# Altium footprint library PcbLib1.PcbLib: 16 footprints
Each footprint in its own frame and in the unit in brackets; x right, y up, seen from the top. Pads: shape width x height; smd on the part's side, far side on the other; paste and mask are expansions set on the pad; w line width, h text height; cw(c..) or ccw(c..) is an arc to the next point about the centre after c.
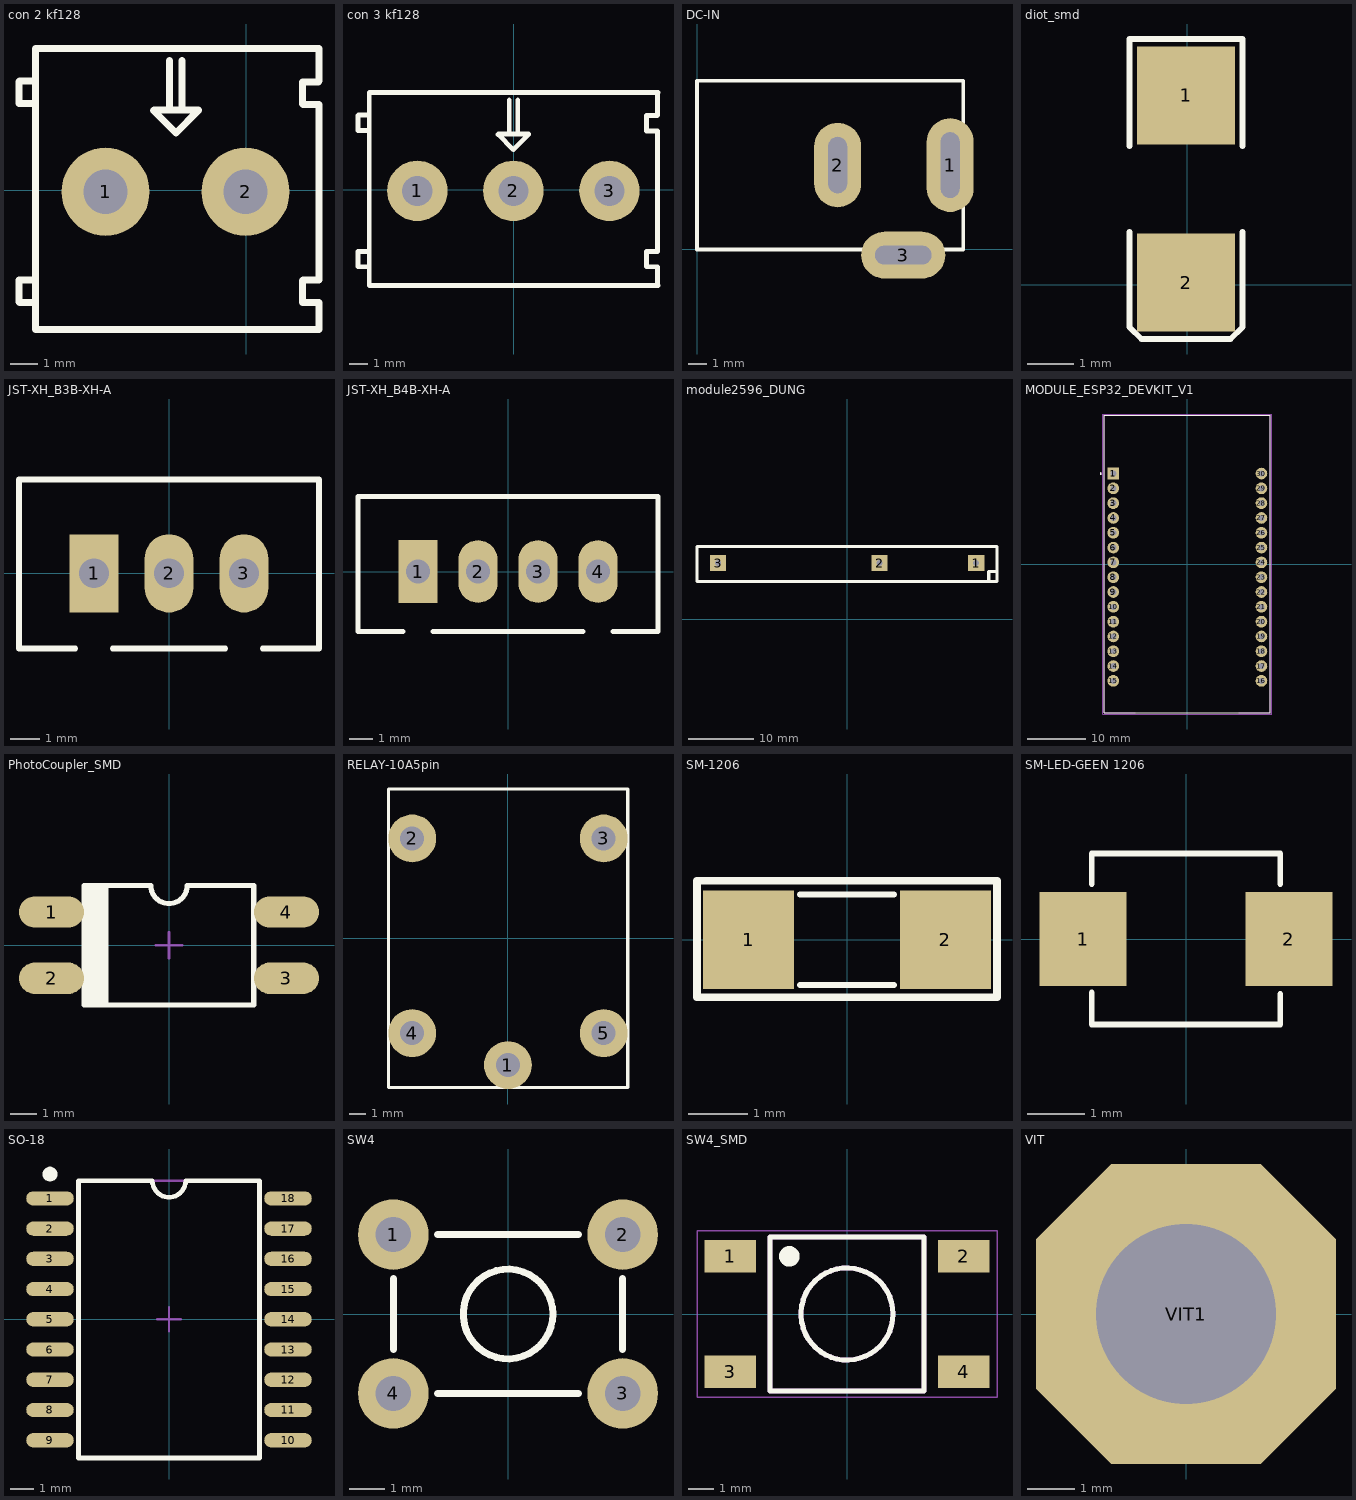
[diagram p0: the footprints below, top view; thin cyan lines are the x and y axes]

## con 2 kf128 [mm]
height 5.08
pads (2):
  round 3.2 hole 1.6 mask+0.102: 1(-5.105,-0.051) 2(-0.025,-0.051)
Top Overlay:
  lines w0.254: -8.245,-4.051 -8.245,-3.251 ; -8.245,3.949 -8.245,3.15 -7.671,3.15 ; -8.23,-4.064 -7.645,-4.064 ; -8.23,-3.251 -7.671,-3.251 ; -8.23,3.962 -7.671,3.962 ; -7.645,5.131 -7.645,-5.051 2.642,-5.051 ; -7.645,5.149 2.642,5.149 ; -2.777,2.957 -2.777,4.707 ; -2.327,3.007 -2.327,4.707 ; 2.051,-4.063 2.051,-3.263 ; 2.051,3.137 2.051,3.937 ; 2.057,-4.064 2.642,-4.064 2.642,-5.029 ; 2.057,-3.251 2.642,-3.251 2.642,3.124 ; 2.057,3.124 2.616,3.124 ; 2.057,3.937 2.616,3.937 2.642,3.962 2.642,5.131 ; -3.365,2.896 -2.553,2.083 -1.74,2.896 -1.74,2.921 -3.34,2.921 -3.365,2.896

## con 3 kf128 [mm]
height 5.08
pads (3):
  round 3.2 hole 1.6 mask+0.102: 1(-5.105,-0.051) 2(-0.025,-0.051) 3(5.055,-0.051)
Top Overlay:
  lines w0.254: -8.245,-4.051 -8.245,-3.251 ; -8.245,3.949 -8.245,3.15 -7.671,3.15 ; -8.23,-4.064 -7.645,-4.064 ; -8.23,-3.251 -7.671,-3.251 ; -8.23,3.962 -7.671,3.962 ; -7.645,5.131 -7.645,-5.051 7.62,-5.051 ; -7.645,5.149 7.62,5.149 ; -0.25,3 -0.25,4.75 ; 0.2,3.05 0.2,4.75 ; 7.004,-4.063 7.004,-3.263 ; 7.004,3.137 7.004,3.937 ; 7.01,-4.064 7.595,-4.064 7.595,-5.029 ; 7.01,-3.251 7.595,-3.251 7.595,3.124 ; 7.01,3.124 7.569,3.124 ; 7.01,3.937 7.569,3.937 7.595,3.962 7.595,5.131 ; -0.838,2.938 -0.813,2.964 0.787,2.964 0.787,2.938 -0.025,2.126 -0.838,2.938
3D body "KF128-3P.step": height 14.85, standoff -4.45, extent -8.22,-5.2 7.62,5.3

## DC-IN [mm] "Jac DC input"
height 5.08
pads (3):
  oval 2.5x5 hole 1 slot 3.5 at 90 deg: 1(13.5,4.5)
  oval 2.5x4.5 hole 1 slot 3 at 90 deg: 2(7.5,4.5)
  oval 4.5x2.5 hole 1 slot 3 at 0 deg: 3(11,-0.3)
Top Overlay:
  lines w0.2: 0,0 0,9 14.2,9 14.2,0 0,0
3D body "SW3dPS-dc range - dc connector[4840.2201].STEP": height 11.02, standoff -3.48, extent 0,-0.503 13.826,9.003

## diot_smd [mm]
height 5.08
pads (2):
  rect 2.1x2.1 smd: 1(-0.026,4.053) 2(-0.026,0.053)
Top Overlay:
  lines w0.127: -1.232,1.132 -1.232,-0.9 -0.978,-1.154 0.927,-1.154 1.181,-0.9 1.181,1.132 ; -1.232,2.973 -1.232,5.259 1.181,5.259 1.181,2.973
3D body "User Library-SMAJ.STEP": height 2.04, standoff 0.05, extent -1.295,-0.381 1.245,4.549

## JST-XH_B3B-XH-A [mm] "JST; XH series; 3 circuit; 2.54 Pitch; Through-hole type; Top entry"
height 7
pads (3):
  rect 1.65x2.65 hole 1: 1(-2.54,0)
  oval 1.65x2.65 hole 1: 2(0,0) 3(2.54,0)
Top Overlay:
  lines w0.2: -3.175,-2.54 -5.08,-2.54 -5.08,3.175 5.08,3.175 5.08,-2.54 3.175,-2.54 ; -1.905,-2.54 1.905,-2.54
3D body "B3B-XH-A.STEP": height 7, standoff -3.4, extent -4.95,-2.555 4.95,3.195

## JST-XH_B4B-XH-A [mm] "JST; XH series; 4 circuit; 2.54 Pitch; Through-hole type; Top entry"
height 5.08
pads (4):
  rect 1.65x2.65 hole 1: 1(-3.81,0)
  oval 1.65x2.65 hole 1: 2(-1.27,0) 3(1.27,0) 4(3.81,0)
Top Overlay:
  lines w0.2: -4.445,-2.54 -6.35,-2.54 -6.35,3.175 6.35,3.175 6.35,-2.54 4.445,-2.54 ; -3.175,-2.54 3.175,-2.54
3D body "B4B-XH-A.STEP": height 7, standoff -3.4, extent -6.2,-2.575 6.2,3.175

## module2596_DUNG [mm] "lm2596"
height 5.08
pads (3):
  rect 2.5x2.5 hole 0.914: 1(19.685,8.534) 2(4.953,8.534) 3(-19.66,8.534)
Top Overlay:
  lines w0.5: 21.59,5.715 21.59,7.239 22.86,7.239 ; -22.86,5.715 -22.86,11.049 22.86,11.049 22.86,5.715 -22.86,5.715
3D body "mach giam ap .STEP": height 21.5, standoff 0.5, extent -21.877,-1.651 21.623,12.159

## MODULE_ESP32_DEVKIT_V1 [mm]
height 6.8
pads (30):
  rect 2x2 / inner round 2 / far side rect 2x2 hole 1.02: 1(-12.7,15.515)
  round 2 hole 1.02: 2(-12.7,12.975) 3(-12.7,10.435) 4(-12.7,7.895) 5(-12.7,5.355) 6(-12.7,2.815) 7(-12.7,0.275) 8(-12.7,-2.265) 9(-12.7,-4.805) 10(-12.7,-7.345) 11(-12.7,-9.885) 12(-12.7,-12.425) 13(-12.7,-14.965) 14(-12.7,-17.505) 15(-12.7,-20.045) 16(12.7,-20.045) 17(12.7,-17.505) 18(12.7,-14.965) 19(12.7,-12.425) 20(12.7,-9.885) 21(12.7,-7.345) 22(12.7,-4.805) 23(12.7,-2.265) 24(12.7,0.275) 25(12.7,2.815) 26(12.7,5.355) 27(12.7,7.895) 28(12.7,10.435) 29(12.7,12.975) 30(12.7,15.515)
Top Overlay:
  circle w0.2: c-14.85,15.515 r0.1
  lines w0.127: -8.91,-25.475 -14.28,-25.475 ; -3.211,25.475 -14.28,25.475 ; 3.5,25.475 14.23,25.475 ; 8.78,-25.475 14.23,-25.475 ; -14.28,-25.475 14.23,-25.475 ; -14.28,-25.475 -14.28,25.475 ; -14.28,-25.475 -14.28,25.475 ; -14.28,25.475 14.23,25.475 ; 14.23,-25.475 14.23,25.475 ; 14.23,-25.475 14.23,25.475
Mechanical 13:
  circle w0.2: c-14.85,15.515 r0.1
  lines w0.127: -8.91,-25.475 -14.28,-25.475 -14.28,25.475 -3.211,25.475 ; 3.5,25.475 14.23,25.475 14.23,-25.475 8.78,-25.475
Mechanical 15:
  lines w0.05: -14.53,-25.725 -14.53,25.725 14.48,25.725 14.48,-25.725 -14.53,-25.725

## PhotoCoupler_SMD [mm]
height 5.08
pads (4):
  oval 2.5x1.2 smd: 1(-4.5,1.27) 2(-4.5,-1.27) 3(4.5,-1.27) 4(4.5,1.27)
Top Overlay:
  rectangle: -3.25,-2.29 -2.32,2.32
  lines w0.2: -3.25,-2.29 3.25,-2.29 3.25,2.29 0.7,2.29 cw(c0,2.29) -0.7,2.29 -3.25,2.29 -3.25,-2.29
Mechanical 15:
  lines w0.1: -0.5,0 0.5,0 ; 0,-0.5 0,0.5
3D body "PC817.STEP": height 3.91, standoff 0, extent -5,-2.278 5,2.302

## RELAY-10A5pin [mm]
height 5.08
pads (5):
  round 3 hole 1.5: 1(0,-7.95) 2(-6,6.25) 3(6,6.25) 4(-6,-5.95) 5(6,-5.95)
Top Overlay:
  lines w0.2: -7.493,-9.35 7.507,-9.35 7.507,9.35 -7.493,9.35 -7.493,-9.35
3D body "User Library-SONGLE Relay SRU-12VDC-SL-C.STEP": height 17.3, standoff -3, extent -7.753,-9.398 7.747,9.702

## SM-1206 [mil] "Compoment SMD 120x60mil"
height 50
pads (2):
  rect 60x65 smd: 1(-65,0) 2(65,0)
Top Overlay:
  lines w4: -31,-30 31,-30 ; -31,30 31,30
  lines w5: -99,-38 99,-38 99,39 -99,39 -99,-38
3D body "User Library-res1206.STEP": height 24.79, standoff 0, extent -82.68,-35 82.68,35.87

## SM-LED-GEEN 1206 [mil] "Compoment SMD 120x60mil"
height 50
pads (2):
  rect 60x65 smd: 1(-71,0) 2(71,0)
Top Overlay:
  lines w4: -65,-37 -65,-59 65,-59 65,-38 ; -65,38 -65,59 65,59 65,38
3D body "SW3dPS-LED1206G.STEP": height 43.81, standoff -15.9, extent -63,-32 63,31

## SO-18 [mm] "SOIC, 18-Leads, Body 9.9x3.9mm, Pitch 1.27mm, IPC Medium Density"
height 1.75
pads (18):
  oval 2x0.6 smd: 1(-5,5.08) 2(-5,3.81) 3(-5,2.54) 4(-5,1.27) 5(-5,0) 6(-5,-1.27) 7(-5,-2.54) 8(-5,-3.81) 9(-5,-5.08) 10(5,-5.08) 11(5,-3.81) 12(5,-2.54) 13(5,-1.27) 14(5,0) 15(5,1.27) 16(5,2.54) 17(5,3.81) 18(5,5.08)
Top Overlay:
  region: -5,5.8 -5.06,5.8 -5.17,5.846 -5.254,5.93 -5.3,6.04 -5.3,6.1 -5.3,6.16 -5.254,6.27 -5.17,6.354 -5.06,6.4 -5,6.4 -4.94,6.4 -4.83,6.354 -4.746,6.27 -4.7,6.16 -4.7,6.1 -4.7,6.04 -4.746,5.93 -4.83,5.846 -4.94,5.8
  lines w0.2: -3.8,-5.825 -3.8,5.825 -0.7,5.825 ccw(c0,5.825) 0.7,5.825 3.8,5.825 3.8,-5.825 -3.8,-5.825
Mechanical 13:
  lines w0.1: -3.8,-5.825 3.8,-5.825 3.8,5.825 -3.8,5.825 -3.8,-5.825
Mechanical 15:
  lines w0.1: -0.5,0 0.5,0 ; 0,-0.5 0,0.5
3D body "SW3dPS-SOIC18-300.STEP": height 2.65, standoff 0, extent -5.15,-5.765 5.15,5.765

## SW4 [mm] "SW button 4pin, 250 x250 mil"
height 2.54
pads (4):
  round 2 hole 1: 1(-3.25,2.25) 2(3.25,2.25) 3(3.25,-2.25) 4(-3.25,-2.25)
Top Overlay:
  circle w0.2: c0,0 r1.27
  lines w0.2: -3.25,-1 -3.25,1 ; -2,-2.25 2,-2.25 ; -2,2.25 2,2.25 ; 2.896,-3.048 2.921,-3.023 ; 3.25,-1 3.25,1
3D body "SW3dPS-.STEP": height 7, standoff -3.5, extent -4.077,-3.175 3.823,3.025

## SW4_SMD [mm]
pads (4):
  rect 2x1.27 smd: 1(-4.55,2.25) 2(4.55,2.25) 3(-4.55,-2.25) 4(4.55,-2.25)
Top Overlay:
  circle w0.4: c-2.25,2.25 r0.2
  circle w0.2: c0,0 r1.796
  lines w0.2: -3,-3 3,-3 3,3 -3,3 -3,-3
Mechanical 13:
  circle w0.2: c0,0 r1.796
  lines w0.2: -3,-3 3,-3 3,3 -3,3 -3,-3
Mechanical 15:
  lines w0.05: -5.85,-3.25 -5.85,3.25 5.85,3.25 5.85,-3.25 -5.85,-3.25
3D body "Tactal Switch - SMD (6mm x 6mm x 5mm).stp": height 5, standoff 0, extent -4.483,-3.016 4.534,3.016

## VIT [mm] "VIT"
height 0.005
pads (1):
  oct 6.35x6.35 hole 3.81: VIT1(0,0)